# Altium schematic symbol library Schematic_library.SchLib: 24 symbols
Pins are listed as number, name and electrical type; pins without a type are passive.

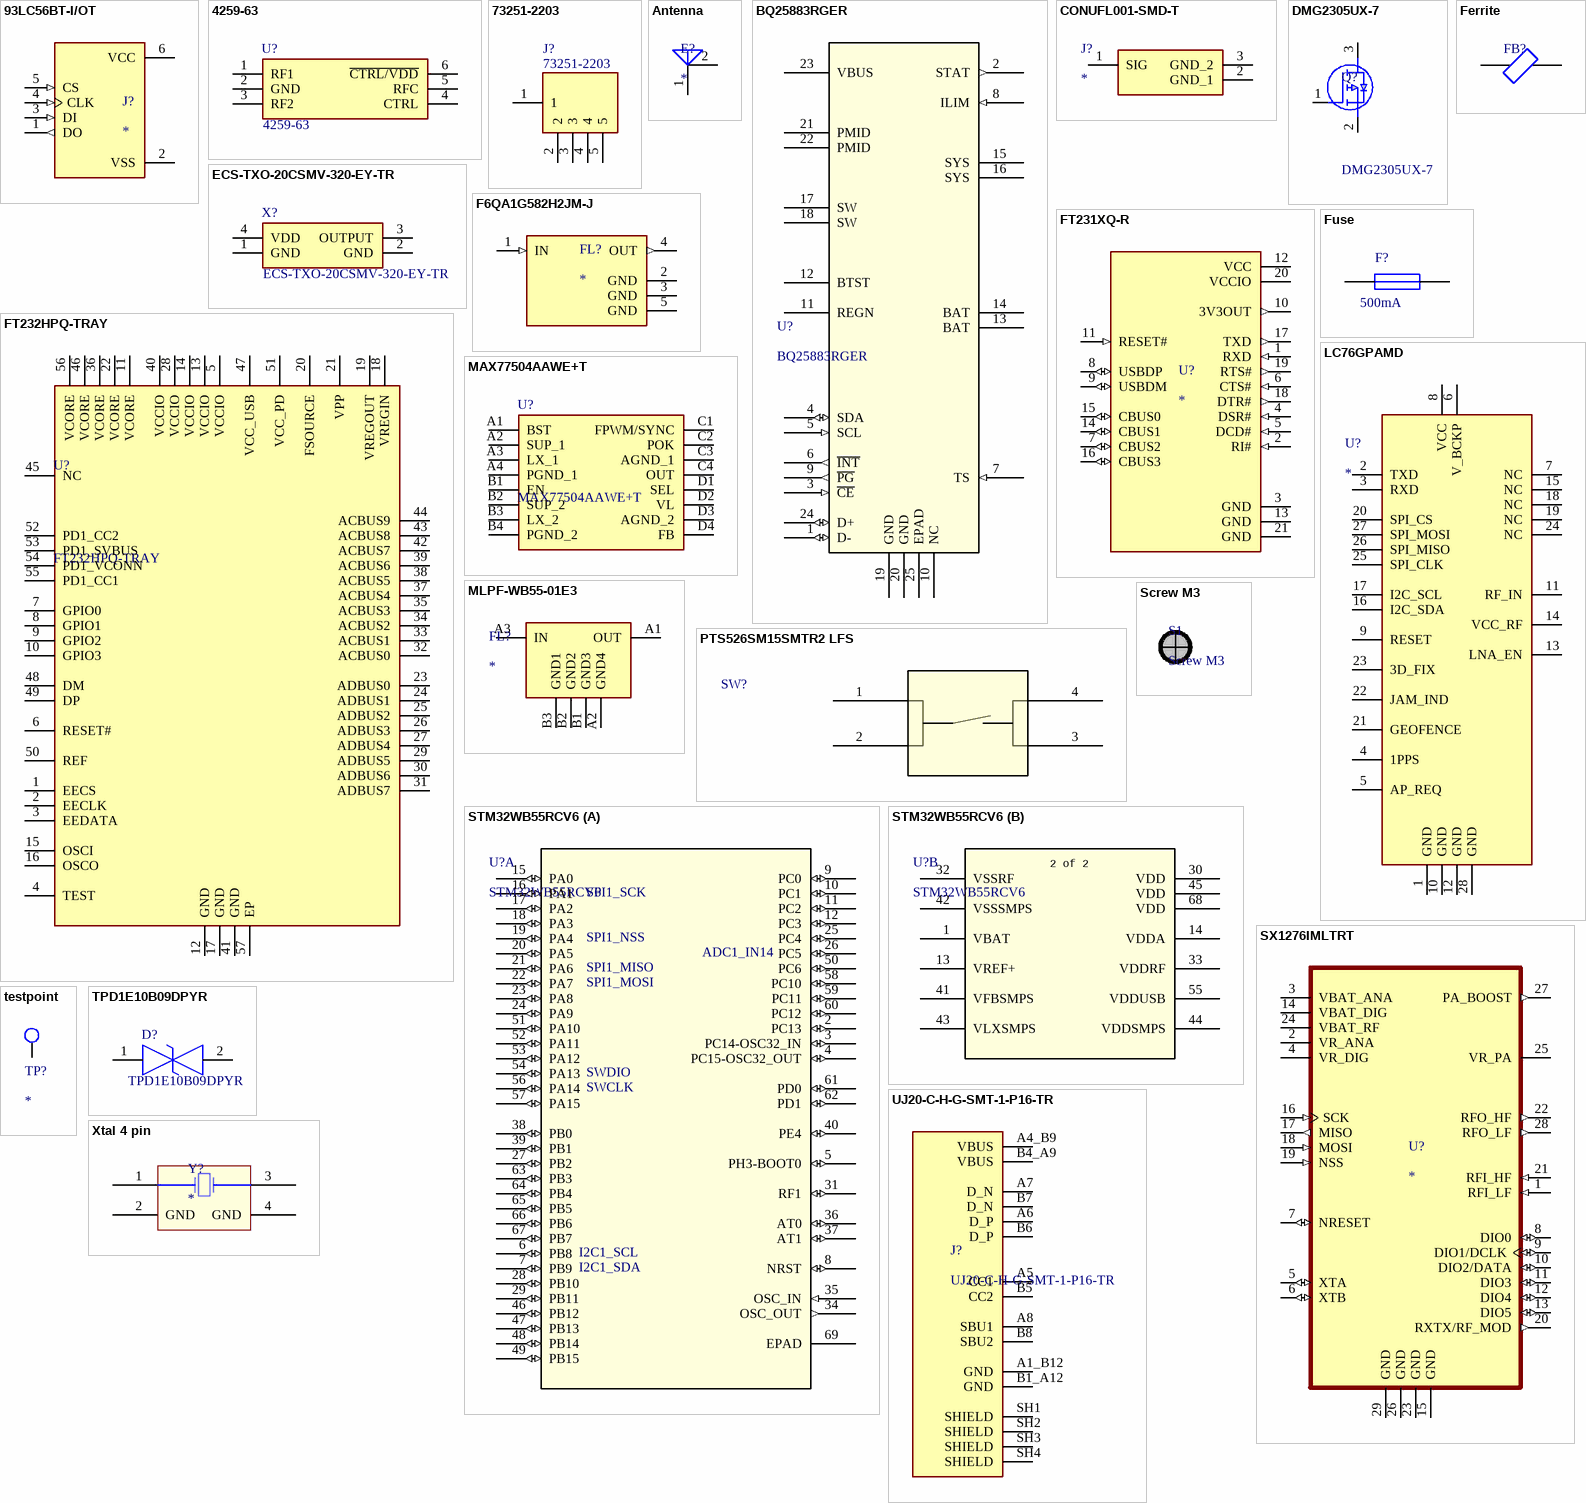
[diagram p0: symbols 93LC56BT-I/OT to Xtal 4 pin]

## 93LC56BT-I/OT
designator J?
2K 128 X 16 Serial Ee Ind6 Sot-23T/R | Microchip Technology Inc. 93LC56BT-I/OT; SnapEDA_Link: https://www.snapeda.com/parts/93LC56BT-I/OT/Microchip/view-part/?ref=snap; Package: SOT-23-6 Microchip; Value: *; MF: Microchip; MP: 93LC56BT-I/OT; Check_prices: https://www.snapeda.com/parts/93LC56BT-I/OT/Microchip/view-part/?ref=eda
footprint SOT95P280X145-6N
footprint 93LC56BT-I/OT
pins: 1 DO (out), 2 VSS (power), 3 DI (in), 4 CLK (in), 5 CS (in), 6 VCC (power)

## 4259-63
designator U?
RF switch IC; Manufacturer_Name: Peregrine Semiconductor; Geometry.Height: 1.1mm; Mouser Part Number: 81-4259-63; Mouser Price/Stock: https://www.mouser.co.uk/ProductDetail/pSemi/4259-63?qs=iw0hurA%2FaD37qvQcKdATTw%3D%3D; Manufacturer_Part_Number: 4259-63; Datasheet Link: http://www.psemi.com/pdf/datasheets/pe4259ds.pdf
footprint SOT65P210X110-6N
footprint 4259-63
pins: 1 RF1, 2 GND, 3 RF2, 4 CTRL, 5 RFC, 6 ~{CTRL/}~{VDD}

## 73251-2203
designator J?
RF Connectors / Coaxial Connectors Conn 50 Ohms, SMA Jack, Right-Angle PCB, Gold; Manufacturer_Name: Molex; Geometry.Height: 10.59mm; Mouser Part Number: 538-73251-2203; Mouser Price/Stock: https://www.mouser.co.uk/ProductDetail/Molex/73251-2203?qs=KpdAywxU013Bis55GeNoeg%3D%3D; Manufacturer_Part_Number: 73251-2203; Datasheet Link: https://www.molex.com/en-us/products/part-detail-pdf/732512203?display=pdf
footprint 732512203
footprint 732512203
pins: 1, 2, 3, 4, 5

## Antenna
designator E?
pins: 1, 2

## BQ25883RGER
designator U?
I2C 2 cell 2A Boost battery charger for USB input in a WQFN package with Power Path 24-VQFN -40 to 85; Manufacturer_Name: Texas Instruments; Copyright: Copyright (C) 2025 Ultra Librarian. All rights reserved.; Manufacturer_Part_Number: BQ25883RGER; RefDes: RefDes; Type: Type
footprint VQFN24_RGE_TEX
footprint BQ25883RGER
pins: 1 D- (io), 2 STAT (out), 3 ~{CE} (in), 4 SDA (io), 5 SCL (in), 6 ~{INT} (out), 7 TS (in), 8 ILIM (in), 9 ~{PG} (out), 10 NC, 11 REGN (power), 12 BTST (power), 13 BAT (power), 14 BAT (power), 15 SYS (power), 16 SYS (power), 17 SW (power), 18 SW (power), 19 GND (power), 20 GND (power), 21 PMID (power), 22 PMID (power), 23 VBUS (power), 24 D+ (io), 25 EPAD (power)

## CONUFL001-SMD-T
designator J?
Connector; Manufacturer_Name: TE Connectivity; Manufacturer_Part_Number: CONUFL001-SMD-T; Datasheet Link: https://eu.mouser.com/datasheet/2/418/9/ENG_DS_CONUFL001_SMD_T_B-3238717.pdf; Height: 1.3mm; Mouser Part Number: N/A; Mouser Price/Stock: https://www.mouser.co.uk/ProductDetail/TE-Connectivity/CONUFL001-SMD-T?qs=3Rah4i%252BhyCHmRzMH%252BkLkPQ%3D%3D; Arrow Part Number: CONUFL001-SMD-T; Arrow Price/Stock: https://www.arrow.com/en/products/conufl001-smd-t/te-connectivity?utm_currency=USD&region=europe
footprint CONUFL001SMDT
footprint CONUFL001SMDT
pins: 1 SIG, 2 GND_1, 3 GND_2

## DMG2305UX-7
designator Q?
MOSFET P-Ch 20V 5A Enhancement SOT23 Diodes Inc DMG2305UX-7 P-channel MOSFET Transistor, -3.3 A, -20 V, 3-Pin SOT-23; Manufacturer_Name: Diodes Incorporated; Geometry.Height: 1.15mm; Mouser Part Number: 621-DMG2305UX-7; Mouser Price/Stock: https://www.mouser.co.uk/ProductDetail/Diodes-Incorporated/DMG2305UX-7?qs=L1DZKBg7t5F%2FNBHrjfxC%252Bg%3D%3D; Manufacturer_Part_Number: DMG2305UX-7; Datasheet Link: https://www.diodes.com//assets/Datasheets/DMG2305UX.pdf
footprint SOT96P240X115-3N
footprint DMG2305UX-7
pins: 1 G, 2 S, 3 D

## ECS-TXO-20CSMV-320-EY-TR
designator X?
TCXO Oscillators MultiVolt TCXO,32MHz,+/-2.5ppm,1.7V 3.465V,2.5 mA,-30 C 85 C, 2.00mm x 1.60mm; Manufacturer_Name: ECS; Geometry.Height: 0.8mm; Mouser Part Number: 520-TXO20CSMV320EYTR; Mouser Price/Stock: https://www.mouser.co.uk/ProductDetail/ECS/ECS-TXO-20CSMV-320-EY-TR?qs=7MVldsJ5UazLDC0xk68SAQ%3D%3D; Manufacturer_Part_Number: ECS-TXO-20CSMV-320-EY-TR; Datasheet Link: https://ecsxtal.com/store/pdf/ECS-TXO-20CSMV.pdf
footprint ECSTXO20CSMV320EYTR
footprint ECS-TXO-20CSMV-320-EY-TR
pins: 1 GND, 2 GND, 3 OUTPUT, 4 VDD

## F6QA1G582H2JM-J
designator FL?
1.582GHz Frequency GPS RF SAW Filter (Surface Acoustic Wave) 1.8dB  Bandwidth 5-SMD, No Lead; MF: Taiyo Yuden; MP: F6QA1G582H2JM-J; SnapEDA_Link: https://www.snapeda.com/parts/F6QA1G582H2JM-J/Taiyo+Yuden/view-part/?ref=snap; Package: SMD-5 Taiyo Yuden; Value: *; Check_prices: https://www.snapeda.com/parts/F6QA1G582H2JM-J/Taiyo+Yuden/view-part/?ref=eda
footprint FIL_F6QA1G582H2JM-J
footprint FIL_F6QA1G582H2JM-J
pins: 1 IN (in), 2 GND (power), 3 GND (power), 4 OUT (out), 5 GND (power)

## Ferrite
designator FB?
MF: Laird-Signal Integrity Products; MP: MI0805K400R-10; SnapEDA_Link: https://www.snapeda.com/parts/MI0805K400R-10/Laird-Signal+Integrity+Products/view-part/?ref=snap; Package: 0805 Laird; Value: *; Check_prices: https://www.snapeda.com/parts/MI0805K400R-10/Laird-Signal+Integrity+Products/view-part/?ref=eda
footprint FB_MI0805K400R-10
footprint 0402 Ferrite Bead
footprint 0402 Ferrite Bead
footprint Model Name (Footprint not found)
pins: 1, 2

## FT231XQ-R
designator U?
USB2.0 Full Speed IC offers a compact bridge to full handshake UART Interface; MP: FT231XQ-R; Package: None; Price: None; Availability: Unavailable; Value: *
footprint QFN50P400X400X80-21N
footprint FT231XQ-R
footprint FT231XQ-R
pins: 1 RXD (in), 2 RI# (in), 3 GND (power), 4 DSR# (in), 5 DCD# (in), 6 CTS# (in), 7 CBUS2 (io), 8 USBDP (io), 9 USBDM (io), 10 3V3OUT (out), 11 RESET# (in), 12 VCC (power), 13 GND (power), 14 CBUS1 (io), 15 CBUS0 (io), 16 CBUS3 (io), 17 TXD (out), 18 DTR# (out), 19 RTS# (out), 20 VCCIO (power), 21 GND (power)

## FT232HPQ-TRAY
designator U?
IC SERIAL USB-C UART QFN-56; Manufacturer_Name: FTDI Chip; Geometry.Height: 0.9mm; Mouser Part Number: 895-FT232HPQ-TRAY; Mouser Price/Stock: https://www.mouser.co.uk/ProductDetail/FTDI/FT232HPQ-TRAY?qs=DRkmTr78QAQOR9QDUJT%2FRg%3D%3D; Manufacturer_Part_Number: FT232HPQ-TRAY; Datasheet Link: https://www.ftdichip.com/Support/Documents/DataSheets/ICs/DS_FT233HP.pdf
footprint QFN50P800X800X90-57N-D
footprint FT232HPQ-TRAY
pins: 1 EECS, 2 EECLK, 3 EEDATA, 4 TEST, 5 VCCIO, 6 RESET#, 7 GPIO0, 8 GPIO1, 9 GPIO2, 10 GPIO3, 11 VCORE, 12 GND, 13 VCCIO, 14 VCCIO, 15 OSCI, 16 OSCO, 17 GND, 18 VREGIN, 19 VREGOUT, 20 FSOURCE, 21 VPP, 22 VCORE, 23 ADBUS0, 24 ADBUS1, 25 ADBUS2, 26 ADBUS3, 27 ADBUS4, 28 VCCIO, 29 ADBUS5, 30 ADBUS6, 31 ADBUS7, 32 ACBUS0, 33 ACBUS1, 34 ACBUS2, 35 ACBUS3, 36 VCORE, 37 ACBUS4, 38 ACBUS5, 39 ACBUS6, 40 VCCIO, 41 GND, 42 ACBUS7, 43 ACBUS8, 44 ACBUS9, 45 NC, 46 VCORE, 47 VCC_USB, 48 DM, 49 DP, 50 REF, 51 VCC_PD, 52 PD1_CC2, 53 PD1_SVBUS, 54 PD1_VCONN, 55 PD1_CC1, 56 VCORE, 57 EP

## Fuse
designator F?, comment 500mA
JB12S5000R / Surface Mount Fuses JB12S SMD Fuse 63V 0.5A Slow 1206 3.2mm X 1.6mm; Manufacturer_Name: Bourns; Manufacturer_Part_Number: SF-1206S050-2; Geometry.Height: 0.7mm; Mouser Part Number: 652-SF-1206S050-2; Mouser Price/Stock: https://www.mouser.co.uk/ProductDetail/Bourns/SF-1206S050-2?qs=GIQXYiEeHGDImC4ULIrHHQ%3D%3D; Datasheet Link: https://altium.componentsearchengine.com/Datasheets/2/SF-1206S050-2.pdf
footprint FUSC3116X70N
footprint SMD-1206-RES
pins: 1, 2

## LC76GPAMD
designator U?
LC76GPAMD; Manufacturer_Name: Quectel; Datasheet Link: https://www.mouser.es/pdfDocs/L76_and_LC76_series_Hardware_Comparison_V1020220515.pdf; Height: 2.7mm; Manufacturer_Part_Number: LC76GPAMD; Mouser Part Number: 277-LC76GPAMD; Mouser Price/Stock: https://www.mouser.co.uk/ProductDetail/Quectel/LC76GPAMD?qs=vvQtp7zwQdMfDuCTmjRUww%3D%3D; Arrow Part Number: LC76GPAMD; Arrow Price/Stock: https://www.arrow.com/en/products/lc76gpamd/quectel-wireless-solutions-co-ltd?utm_currency=USD&region=nac
footprint LC76GPAMD
footprint LC76GPAMD
pins: 1 GND, 2 TXD, 3 RXD, 4 1PPS, 5 AP_REQ, 6 V_BCKP, 7 NC, 8 VCC, 9 RESET, 10 GND, 11 RF_IN, 12 GND, 13 LNA_EN, 14 VCC_RF, 15 NC, 16 I2C_SDA, 17 I2C_SCL, 18 NC, 19 NC, 20 SPI_CS, 21 GEOFENCE, 22 JAM_IND, 23 3D_FIX, 24 NC, 25 SPI_CLK, 26 SPI_MISO, 27 SPI_MOSI, 28 GND

## MAX77504AAWE+T
designator U?
Switching Voltage Regulators High-Efficiency Buck; Manufacturer_Name: Analog Devices; Geometry.Height: 0.69mm; Mouser Part Number: 700-MAX77504AAWE+T; Mouser Price/Stock: https://www.mouser.co.uk/ProductDetail/Maxim-Integrated/MAX77504AAWE%2bT?qs=xZ%2FP%252Ba9zWqZtt7v5b08uMg%3D%3D; Manufacturer_Part_Number: MAX77504AAWE+T; Datasheet Link: https://pdfserv.maximintegrated.com/en/ds/MAX77504.pdf
footprint BGA16C40P4X4_169X169X69
footprint MAX77504AAWE+T
pins: A1 BST, A2 SUP_1, A3 LX_1, A4 PGND_1, B1 EN, B2 SUP_2, B3 LX_2, B4 PGND_2, C1 FPWM/SYNC, C2 POK, C3 AGND_1, C4 OUT, D1 SEL, D2 VL, D3 AGND_2, D4 FB

## MLPF-WB55-01E3
designator FL?
MLPF-WB55-01E3; Manufacturer_Name: STMicroelectronics; Datasheet Link: https://www.st.com/resource/en/datasheet/mlpf-wb55-01e3.pdf; Manufacturer_Part_Number: MLPF-WB55-01E3; Mouser Part Number: 511-MLPF-WB55-01E3; Mouser Price/Stock: https://www.mouser.co.uk/ProductDetail/STMicroelectronics/MLPF-WB55-01E3?qs=vLWxofP3U2xV%2FkxL9PmCDA%3D%3D; Arrow Part Number: MLPF-WB55-01E3; Arrow Price/Stock: https://www.arrow.com/en/products/mlpf-wb55-01e3/stmicroelectronics?utm_currency=USD&region=nac
footprint BUMPLESS_CSP_2025
footprint MLPF-WB55-01E3
pins: A1 OUT, A2 GND4, A3 IN, B1 GND3, B2 GND2, B3 GND1

## PTS526SM15SMTR2 LFS
designator SW?
PTS526SM15SMTR2 LFS; Manufacturer_Name: C&K Components; Copyright: Copyright (C) 2026 Ultra Librarian. All rights reserved.; Manufacturer_Part_Number: PTS526 SM15 SMTR2 LFS; RefDes: RefDes; Type: Type
footprint SON4_PTS526 SM15 SMTR2 LFS_CNK
footprint PTS526SM15SMTR2 LFS
pins: 1, 2, 3, 4

## Screw M3
designator S1
footprint Screw M3
footprint M3

## STM32WB55RCV6
designator U?
Ultra-low-power dual core Arm Cortex-M4 MCU 64 MHz, Cortex-M0+ 32 MHz with 256 Kbytes of Flash memory, Bluetooth LE 5.4, 802.15.4, Zigbee, Thread, Matter, USB, LCD, AES-256; Manufacturer_Name: STMicroelectronics; Copyright: Copyright (C) 2025 Ultra Librarian. All rights reserved.; Manufacturer_Part_Number: STM32WB55RCV6; RefDes: RefDes; Type: Type
footprint VFQFN68-8x8mm_STM
footprint STM32WB55RCV6
part A pins: 2 PC13 (io), 3 PC14-OSC32_IN (io), 4 PC15-OSC32_OUT (io), 5 PH3-BOOT0 (io), 6 PB8 (io), 7 PB9 (io), 8 NRST (io), 9 PC0 (io), 10 PC1 (io), 11 PC2 (io), 12 PC3 (io), 15 PA0 (io), 16 PA1 (io), 17 PA2 (io), 18 PA3 (io), 19 PA4 (io), 20 PA5 (io), 21 PA6 (io), 22 PA7 (io), 23 PA8 (io), 24 PA9 (io), 25 PC4 (io), 26 PC5 (io), 27 PB2 (io), 28 PB10 (io), 29 PB11 (io), 31 RF1 (io), 34 OSC_OUT (out), 35 OSC_IN (in), 36 AT0 (io), 37 AT1 (io), 38 PB0 (io), 39 PB1 (io), 40 PE4 (io), 46 PB12 (io), 47 PB13 (io), 48 PB14 (io), 49 PB15 (io), 50 PC6 (io), 51 PA10 (io), 52 PA11 (io), 53 PA12 (io), 54 PA13 (io), 56 PA14 (io), 57 PA15 (io), 58 PC10 (io), 59 PC11 (io), 60 PC12 (io), 61 PD0 (io), 62 PD1 (io), 63 PB3 (io), 64 PB4 (io), 65 PB5 (io), 66 PB6 (io), 67 PB7 (io), 69 EPAD
part B pins: 1 VBAT (power), 13 VREF+ (power), 14 VDDA (power), 30 VDD (power), 32 VSSRF (power), 33 VDDRF (power), 41 VFBSMPS (power), 42 VSSSMPS (power), 43 VLXSMPS (power), 44 VDDSMPS (power), 45 VDD (power), 55 VDDUSB (power), 68 VDD (power)
part A text: SPI1_SCK; SPI1_NSS; ADC1_IN14; SPI1_MISO; SPI1_MOSI; SWDIO; SWCLK; I2C1_SCL; I2C1_SDA
part B text: 2 of 2

## SX1276IMLTRT
designator U?
IC RF TxRx Only 802.15.4 LoRaâ„¢ 137MHz ~ 1.02GHz 28-VQFN Exposed Pad; MF: Semtech Corporation; MP: SX1276IMLTRT; SnapEDA_Link: https://www.snapeda.com/parts/SX1276IMLTRT/Semtech+Corporation/view-part/?ref=snap; Package: VQFN-28 Semtech; Value: *; Check_prices: https://www.snapeda.com/parts/SX1276IMLTRT/Semtech+Corporation/view-part/?ref=eda
footprint QFN65P600X600X100-29N
footprint SX1276IMLTRT
pins: 1 RFI_LF (in), 2 VR_ANA (power), 3 VBAT_ANA (power), 4 VR_DIG (power), 5 XTA (io), 6 XTB (io), 7 NRESET (io), 8 DIO0 (io), 9 DIO1/DCLK (io), 10 DIO2/DATA (io), 11 DIO3 (io), 12 DIO4 (io), 13 DIO5 (io), 14 VBAT_DIG (power), 15 GND (power), 16 SCK (in), 17 MISO (out), 18 MOSI (in), 19 NSS (in), 20 RXTX/RF_MOD (out), 21 RFI_HF (in), 22 RFO_HF (out), 23 GND (power), 24 VBAT_RF (power), 25 VR_PA (power), 26 GND (power), 27 PA_BOOST (out), 28 RFO_LF (out), 29 GND (power)

## testpoint
designator TP?  (no BOM)
footprint testpoint 1 mm
pins: 1

## TPD1E10B09DPYR
designator D?
Single-Channel ESD Protection in 0402 Package With 10pF Capacitance and 9V Breakdown; Manufacturer_Name: Texas Instruments; Geometry.Height: 0.45mm; Mouser Part Number: 595-TPD1E10B09DPYR; Mouser Price/Stock: https://www.mouser.co.uk/ProductDetail/Texas-Instruments/TPD1E10B09DPYR?qs=gXEV9p%2FxLgcUO%252BNVS9qglg%3D%3D; Manufacturer_Part_Number: TPD1E10B09DPYR; Datasheet Link: http://www.ti.com/lit/gpn/tpd1e10b09
footprint TPD1E10B09DPYR
footprint TPD1E10B09DPYR
pins: 1, 2

## UJ20-C-H-G-SMT-1-P16-TR
designator J?
USB-C (USB TYPE-C) USB 2.0 Receptacle Connector 24 (16+8 Dummy) Position Surface Mount, Right Angle; Through Hole; MF: Same Sky; SnapEDA_Link: https://www.snapeda.com/parts/UJ20-C-H-G-SMT-1-P16-TR/Same+Sky/view-part/?ref=snap; Package: None; Value: *; MP: UJ20-C-H-G-SMT-1-P16-TR; Check_prices: https://www.snapeda.com/parts/UJ20-C-H-G-SMT-1-P16-TR/Same+Sky/view-part/?ref=eda
footprint SAMESKY_UJ20-C-H-G-SMT-1-P16-TR
footprint SAMESKY_UJ20-C-H-G-SMT-1-P16-TR (USB-C (USB TYPE-C) USB 2.0 Receptacle Connector 24 (16+8 Dummy) Position Surface Mount, Right Angle; Through Hole)
pins: A1_B12 GND, A4_B9 VBUS, A5 CC1, A6 D_P, A7 D_N, A8 SBU1, B1_A12 GND, B4_A9 VBUS, B5 CC2, B6 D_P, B7 D_N, B8 SBU2, SH1 SHIELD, SH2 SHIELD, SH3 SHIELD, SH4 SHIELD

## Xtal 4 pin
designator Y?
footprint ECS-TXO-20CSMV-320-EY-TR
pins: 1, 2 GND, 3, 4 GND